# EAGLE library part HM_AT_MAINBOARD_V0.2_1 (library HOME_AutomationV_1.0)
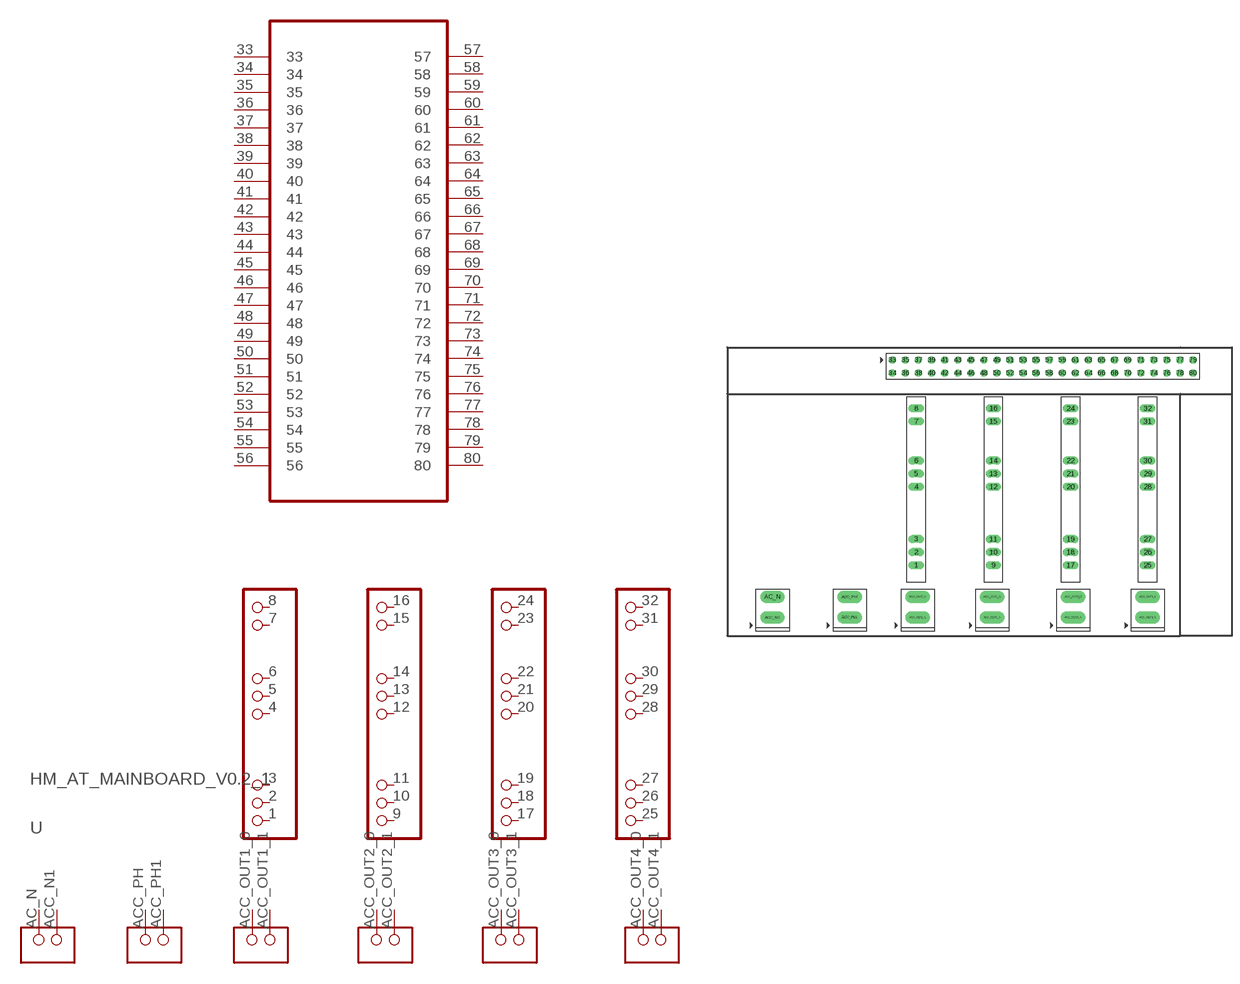
[diagram p12: symbol with the pads of HM_AT_MAINBOARD_V0.2_1; footprint HM_AT_MAINBOARD_V0.2_1]

Designator prefix -

## HM_AT_MAINBOARD_V0.2_1  [HM_AT_MAINBOARD_V0.2_1]
1  1  pas
2  2  pas
3  3  pas
4  4  pas
5  5  pas
6  6  pas
7  7  pas
8  8  pas
9  9  pas
10  10  pas
11  11  pas
12  12  pas
13  13  pas
14  14  pas
15  15  pas
16  16  pas
17  17  pas
18  18  pas
19  19  pas
20  20  pas
21  21  pas
22  22  pas
23  23  pas
24  24  pas
25  25  pas
26  26  pas
27  27  pas
28  28  pas
29  29  pas
30  30  pas
31  31  pas
32  32  pas
33  33  pas
34  34  pas
35  35  pas
36  36  pas
37  37  pas
38  38  pas
39  39  pas
40  40  pas
41  41  pas
42  42  pas
43  43  pas
44  44  pas
45  45  pas
46  46  pas
47  47  pas
48  48  pas
49  49  pas
50  50  pas
51  51  pas
52  52  pas
53  53  pas
54  54  pas
55  55  pas
56  56  pas
57  57  pas
58  58  pas
59  59  pas
60  60  pas
61  61  pas
62  62  pas
63  63  pas
64  64  pas
65  65  pas
66  66  pas
67  67  pas
68  68  pas
69  69  pas
70  70  pas
71  71  pas
72  72  pas
73  73  pas
74  74  pas
75  75  pas
76  76  pas
77  77  pas
78  78  pas
79  79  pas
80  80  pas
AC_N  AC_N
ACC_N1  AC_N1
ACC_OUT1_0  AC_OUT1_0
ACC_OUT1_1  AC_OUT1_1
ACC_OUT2_0  AC_OUT2_0
ACC_OUT2_1  AC_OUT2_1
ACC_OUT3_0  AC_OUT3_0
ACC_OUT3_1  AC_OUT3_1
ACC_OUT4_0  AC_OUT4_0
ACC_OUT4_1  AC_OUT4_1
ACC_PH  AC_PH
ACC_PH1  AC_PH1

## Footprint HM_AT_MAINBOARD_V0.2_1 (pad centres in mm)
drill 1.016 long: 1 27.686,12.7; 2 27.686,15.24; 3 27.686,17.78; 4 27.686,27.94; 5 27.686,30.48; 6 27.686,33.02; 7 27.686,40.64; 8 27.686,43.18; 9 42.672,12.7; 10 42.672,15.24; 11 42.672,17.78; 12 42.672,27.94; 13 42.672,30.48; 14 42.672,33.02; 15 42.672,40.64; 16 42.672,43.18; 17 57.658,12.7; 18 57.658,15.24; 19 57.658,17.78; 20 57.658,27.94; 21 57.658,30.48; 22 57.658,33.02; 23 57.658,40.64; 24 57.658,43.18; 25 72.644,12.7; 26 72.644,15.24; 27 72.644,17.78; 28 72.644,27.94; 29 72.644,30.48; 30 72.644,33.02; 31 72.644,40.64; 32 72.644,43.18
drill 0.889: 33 23.05,52.57; 34 23.05,50.03; 35 25.59,52.57; 36 25.59,50.03; 37 28.13,52.57; 38 28.13,50.03; 39 30.67,52.57; 40 30.67,50.03; 41 33.21,52.57; 42 33.21,50.03; 43 35.75,52.57; 44 35.75,50.03; 45 38.29,52.57; 46 38.29,50.03; 47 40.83,52.57; 48 40.83,50.03; 49 43.37,52.57; 50 43.37,50.03; 51 45.91,52.57; 52 45.91,50.03; 53 48.45,52.57; 54 48.45,50.03; 55 50.99,52.57; 56 50.99,50.03; 57 53.53,52.57; 58 53.53,50.03; 59 56.07,52.57; 60 56.07,50.03; 61 58.61,52.57; 62 58.61,50.03; 63 61.15,52.57; 64 61.15,50.03; 65 63.69,52.57; 66 63.69,50.03; 67 66.23,52.57; 68 66.23,50.03; 69 68.77,52.57; 70 68.77,50.03; 71 71.31,52.57; 72 71.31,50.03; 73 73.85,52.57; 74 73.85,50.03; 75 76.39,52.57; 76 76.39,50.03; 77 78.93,52.57; 78 78.93,50.03; 79 81.47,52.57; 80 81.47,50.03
drill 1.4 pad 2.38 long: AC_N -0.254,6.54; ACC_N1 -0.254,2.54; ACC_OUT1_0 27.94,6.54; ACC_OUT1_1 27.94,2.54; ACC_OUT2_0 42.418,6.54; ACC_OUT2_1 42.418,2.54; ACC_OUT3_0 58.166,6.54; ACC_OUT3_1 58.166,2.54; ACC_OUT4_0 72.644,6.54; ACC_OUT4_1 72.644,2.54; ACC_PH 14.732,6.54; ACC_PH1 14.732,2.54